# EAGLE library part USBLC6-2 (library Misaka-Diode)
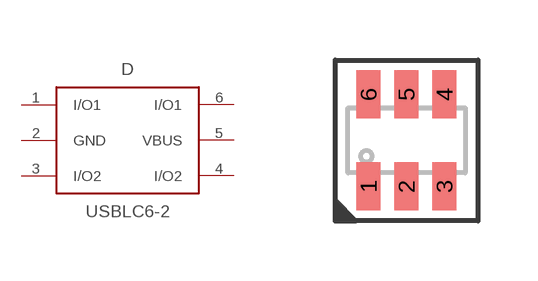
[diagram p0: symbol with the pads of SOT23-6L; footprint SOT23-6L]

Designator prefix D

## USBLC6-2SC6  [SOT23-6L]
1  I/O1
2  GND  pwr
3  I/O2
4  I/O2
5  VBUS  pwr
6  I/O1

## Footprint SOT23-6L (pad centres in mm)
smd 0.6 x 1.2: 1 -0.95,-1.15; 2 0,-1.15; 3 0.95,-1.15; 4 0.95,1.15; 5 0,1.15; 6 -0.95,1.15